# Altium schematic symbol library RES_2k_0.5W.SchLib: 1 symbol
Pins are listed as number, name and electrical type; pins without a type are passive.

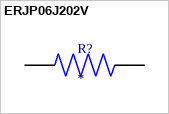
[diagram p0: symbol ERJP06J202V]

## ERJP06J202V
designator R?
MP: ERJP06J202V; Value: *; Package: None; Price: None; Availability: Unavailable
footprint RES_ERJP06J202V
pins: 1, 2